# EAGLE library part IRF7815PBF (library International_Rectifier_By_element14_Batch_1)
HEXFET Power MOSFET
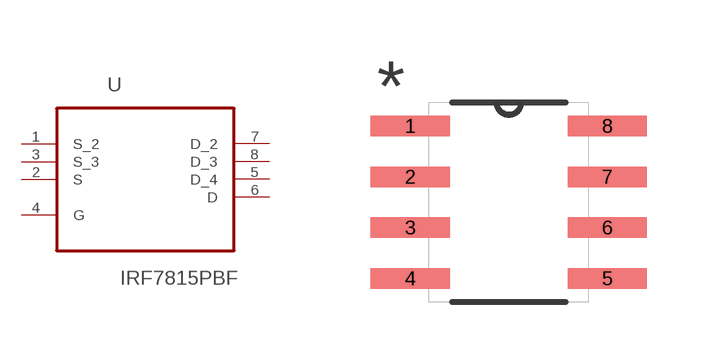
[diagram p81: symbol with the pads of SOIC127P600X175-8N; footprint SOIC127P600X175-8N]

Designator prefix U

## IRF7815PBF (MPN: IRF7815PBF; OC_FARNELL: 1865585; OC_NEWARK: 57R4071; PACKAGE: SOIC-8; SUPPLIER: INTERNATIONAL RECTIFIER)  [SOIC127P600X175-8N]
1  S_2  pas
2  S  pas
3  S_3  pas
4  G  pas
5  D_4  pas
6  D  pas
7  D_2  pas
8  D_3  pas

## Footprint SOIC127P600X175-8N (pad centres in mm)
smd 1.981 x 0.508: 1 -2.464,1.905; 2 -2.464,0.635; 3 -2.464,-0.635; 4 -2.464,-1.905; 5 2.464,-1.905; 6 2.464,-0.635; 7 2.464,0.635; 8 2.464,1.905